# EAGLE library part FT812 (library FTDI)
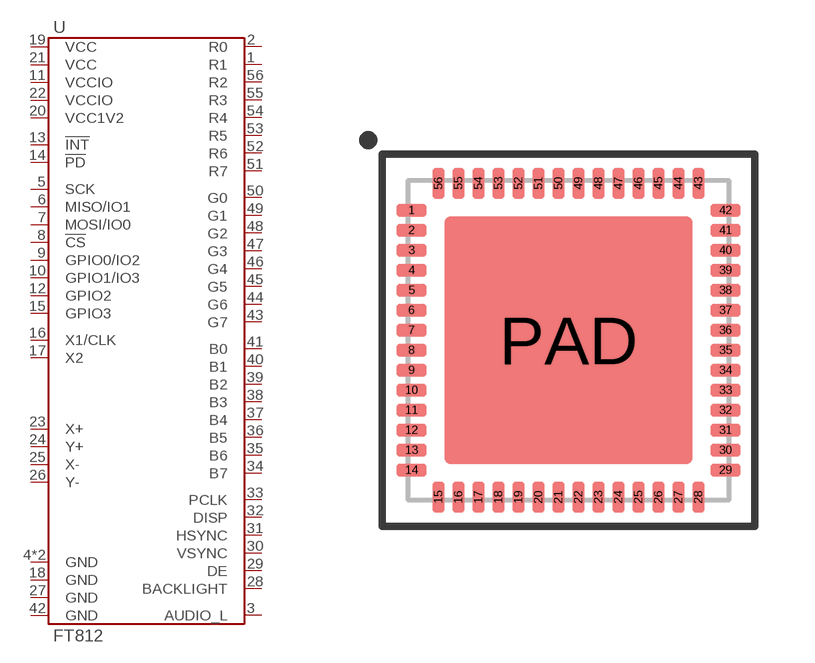
[diagram p4: symbol with the pads of VQFN-56; footprint VQFN-56]

Designator prefix U

## FT812Q  [VQFN-56]
1  R1
2  R0
3  AUDIO_L
4  GND
5  SCK
6  MISO/IO1
7  MOSI/IO0
8  !CS
9  GPIO0/IO2
10  GPIO1/IO3
11  VCCIO
12  GPIO2
13  !INT
14  !PD
15  GPIO3
16  X1/CLK
17  X2
18  GND
19  VCC
20  VCC1V2
21  VCC
22  VCCIO
23  X+
24  Y+
25  X-
26  Y-
27  GND
28  BACKLIGHT
29  DE
30  VSYNC
31  HSYNC
32  DISP
33  PCLK
34  B7
35  B6
36  B5
37  B4
38  B3
39  B2
40  B1
41  B0
42  GND
43  G7
44  G6
45  G5
46  G4
47  G3
48  G2
49  G1
50  G0
51  R7
52  R6
53  R5
54  R4
55  R3
56  R2
PAD  GND

## Footprint VQFN-56 (pad centres in mm)
smd 0.75 x 0.3: 1 -3.925,3.25; 2 -3.925,2.75; 3 -3.925,2.25; 4 -3.925,1.75; 5 -3.925,1.25; 6 -3.925,0.75; 7 -3.925,0.25; 8 -3.925,-0.25; 9 -3.925,-0.75; 10 -3.925,-1.25; 11 -3.925,-1.75; 12 -3.925,-2.25; 13 -3.925,-2.75; 14 -3.925,-3.25; 29 3.925,-3.25; 30 3.925,-2.75; 31 3.925,-2.25; 32 3.925,-1.75; 33 3.925,-1.25; 34 3.925,-0.75; 35 3.925,-0.25; 36 3.925,0.25; 37 3.925,0.75; 38 3.925,1.25; 39 3.925,1.75; 40 3.925,2.25; 41 3.925,2.75; 42 3.925,3.25
smd 0.3 x 0.75: 15 -3.25,-3.925; 16 -2.75,-3.925; 17 -2.25,-3.925; 18 -1.75,-3.925; 19 -1.25,-3.925; 20 -0.75,-3.925; 21 -0.25,-3.925; 22 0.25,-3.925; 23 0.75,-3.925; 24 1.25,-3.925; 25 1.75,-3.925; 26 2.25,-3.925; 27 2.75,-3.925; 28 3.25,-3.925; 43 3.25,3.925; 44 2.75,3.925; 45 2.25,3.925; 46 1.75,3.925; 47 1.25,3.925; 48 0.75,3.925; 49 0.25,3.925; 50 -0.25,3.925; 51 -0.75,3.925; 52 -1.25,3.925; 53 -1.75,3.925; 54 -2.25,3.925; 55 -2.75,3.925; 56 -3.25,3.925
smd 6.2 x 6.2: PAD 0,0